# Altium schematic symbol library GRM188R61E106MA73D.SchLib: 1 symbol
Pins are listed as number, name and electrical type; pins without a type are passive.

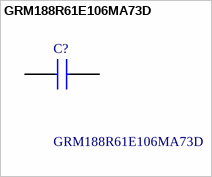
[diagram p0: symbol GRM188R61E106MA73D]

## GRM188R61E106MA73D
designator C?
Multilayer Ceramic Capacitors MLCC - SMD/SMT 0603 10uF 25volts X5R 20%; Manufacturer_Name: Murata Electronics; Geometry.Height: 0.9mm; Manufacturer_Part_Number: GRM188R61E106MA73D; Mouser Part Number: 81-GRM188R61E106MA3D; Mouser Price/Stock: https://www.mouser.co.uk/ProductDetail/Murata-Electronics/GRM188R61E106MA73D?qs=PoXZt%252B2CjACpktoD15Kv0Q%3D%3D; Arrow Part Number: GRM188R61E106MA73D; Arrow Price/Stock: https://www.arrow.com/en/products/grm188r61e106ma73d/murata-manufacturing?region=nac; Datasheet Link: https://psearch.en.murata.com/capacitor/product/GRM188R61E106MA73%23.html
footprint CAPC1608X90N
pins: 1, 2